# EAGLE library part RP2354B (library RP2354B)
CPU: Dual Arm Cortex-M33 or dual Hazard3 RISC-V processors @ 150MHz Memory: 520 KB on-chip SRAM, in ten independent banks Support for up to 16 MB of external QSPI flash/PSRAM via dedicated QSPI bus; additional 16 MB flash/PSRAM accessible via optional second chip-select Peripherals: 2UART 2SPI controllers 2I2C controllers 24PWM channels 4/8 ADC channels 1USB 1.1 controller and PHY, with host and device support 12PIO state machines Security features: Optio Source: Datasheet <https://datasheets.raspberrypi.com/rp2350/rp2350-product-brief.pdf>
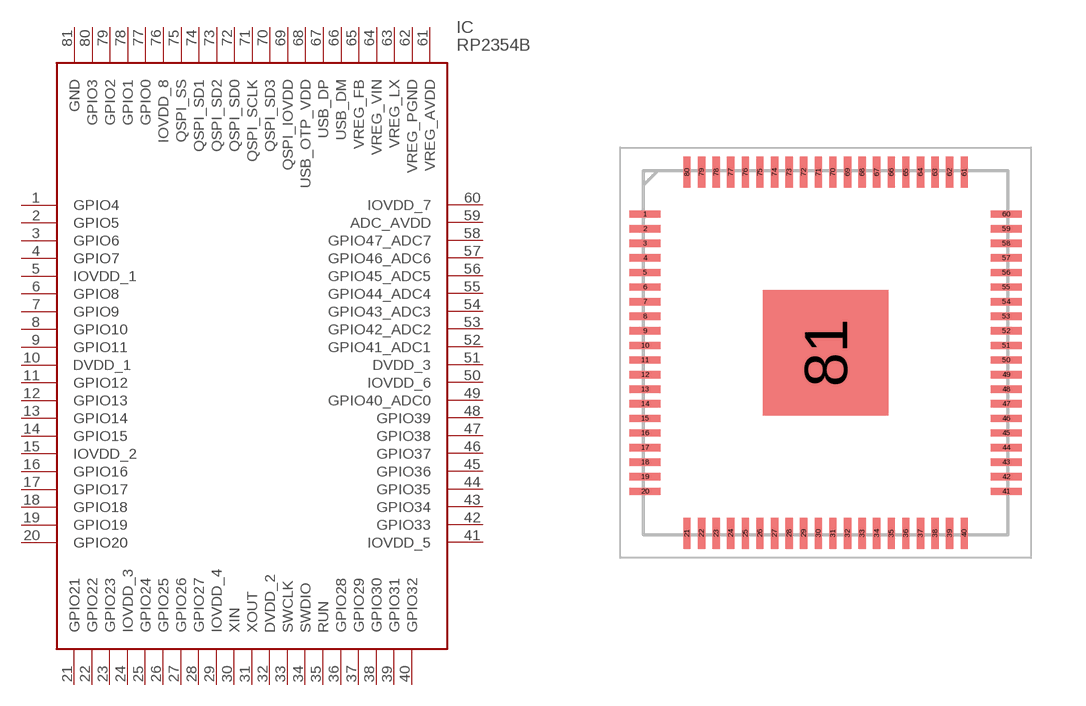
[diagram p0: symbol with the pads of QFN40P1000X1000X90-81N; footprint QFN40P1000X1000X90-81N]

Designator prefix IC

## RP2354B (Description: CPU: Dual Arm Cortex-M33 or dual Hazard3 RISC-V processors @ 150MHz Memory: 520 KB on-chip SRAM, in ten independent banks Support for up to 16 MB of external QSPI flash/PSRAM via dedicated QSPI bus; additional 16 MB flash/PSRAM accessible via optional second chip-select Peripherals: 2UART 2SPI controllers 2I2C controllers 24PWM channels 4/8 ADC channels 1USB 1.1 controller and PHY, with host and device support 12PIO state machines Security features: Optio; Height: 0.9mm; Manufacturer_Name: RASPBERRY-PI; Manufacturer_Part_Number: RP2354B)  [QFN40P1000X1000X90-81N]
1  GPIO4
2  GPIO5
3  GPIO6
4  GPIO7
5  IOVDD_1
6  GPIO8
7  GPIO9
8  GPIO10
9  GPIO11
10  DVDD_1
11  GPIO12
12  GPIO13
13  GPIO14
14  GPIO15
15  IOVDD_2
16  GPIO16
17  GPIO17
18  GPIO18
19  GPIO19
20  GPIO20
21  GPIO21
22  GPIO22
23  GPIO23
24  IOVDD_3
25  GPIO24
26  GPIO25
27  GPIO26
28  GPIO27
29  IOVDD_4
30  XIN
31  XOUT
32  DVDD_2
33  SWCLK
34  SWDIO
35  RUN
36  GPIO28
37  GPIO29
38  GPIO30
39  GPIO31
40  GPIO32
41  IOVDD_5
42  GPIO33
43  GPIO34
44  GPIO35
45  GPIO36
46  GPIO37
47  GPIO38
48  GPIO39
49  GPIO40_ADC0
50  IOVDD_6
51  DVDD_3
52  GPIO41_ADC1
53  GPIO42_ADC2
54  GPIO43_ADC3
55  GPIO44_ADC4
56  GPIO45_ADC5
57  GPIO46_ADC6
58  GPIO47_ADC7
59  ADC_AVDD
60  IOVDD_7
61  VREG_AVDD
62  VREG_PGND
63  VREG_LX
64  VREG_VIN
65  VREG_FB
66  USB_DM
67  USB_DP
68  USB_OTP_VDD
69  QSPI_IOVDD
70  QSPI_SD3
71  QSPI_SCLK
72  QSPI_SD0
73  QSPI_SD2
74  QSPI_SD1
75  QSPI_SS
76  IOVDD_8
77  GPIO0
78  GPIO1
79  GPIO2
80  GPIO3
81  GND

## Footprint QFN40P1000X1000X90-81N (pad centres in mm)
80QFN
smd 0.85 x 0.2: 1 -4.95,3.8; 2 -4.95,3.4; 3 -4.95,3; 4 -4.95,2.6; 5 -4.95,2.2; 6 -4.95,1.8; 7 -4.95,1.4; 8 -4.95,1; 9 -4.95,0.6; 10 -4.95,0.2; 11 -4.95,-0.2; 12 -4.95,-0.6; 13 -4.95,-1; 14 -4.95,-1.4; 15 -4.95,-1.8; 16 -4.95,-2.2; 17 -4.95,-2.6; 18 -4.95,-3; 19 -4.95,-3.4; 20 -4.95,-3.8; 41 4.95,-3.8; 42 4.95,-3.4; 43 4.95,-3; 44 4.95,-2.6; 45 4.95,-2.2; 46 4.95,-1.8; 47 4.95,-1.4; 48 4.95,-1; 49 4.95,-0.6; 50 4.95,-0.2; 51 4.95,0.2; 52 4.95,0.6; 53 4.95,1; 54 4.95,1.4; 55 4.95,1.8; 56 4.95,2.2; 57 4.95,2.6; 58 4.95,3; 59 4.95,3.4; 60 4.95,3.8
smd 0.2 x 0.85: 21 -3.8,-4.95; 22 -3.4,-4.95; 23 -3,-4.95; 24 -2.6,-4.95; 25 -2.2,-4.95; 26 -1.8,-4.95; 27 -1.4,-4.95; 28 -1,-4.95; 29 -0.6,-4.95; 30 -0.2,-4.95; 31 0.2,-4.95; 32 0.6,-4.95; 33 1,-4.95; 34 1.4,-4.95; 35 1.8,-4.95; 36 2.2,-4.95; 37 2.6,-4.95; 38 3,-4.95; 39 3.4,-4.95; 40 3.8,-4.95; 61 3.8,4.95; 62 3.4,4.95; 63 3,4.95; 64 2.6,4.95; 65 2.2,4.95; 66 1.8,4.95; 67 1.4,4.95; 68 1,4.95; 69 0.6,4.95; 70 0.2,4.95; 71 -0.2,4.95; 72 -0.6,4.95; 73 -1,4.95; 74 -1.4,4.95; 75 -1.8,4.95; 76 -2.2,4.95; 77 -2.6,4.95; 78 -3,4.95; 79 -3.4,4.95; 80 -3.8,4.95
smd 3.45 x 3.45: 81 0,0